# Altium footprint library 2020-01-26_02-45-12.PcbLib: 3 footprints
Each footprint in its own frame and in the unit in brackets; x right, y up, seen from the top. Pads: shape width x height; smd on the part's side, far side on the other; paste and mask are expansions set on the pad; w line width, h text height; cw(c..) or ccw(c..) is an arc to the next point about the centre after c.
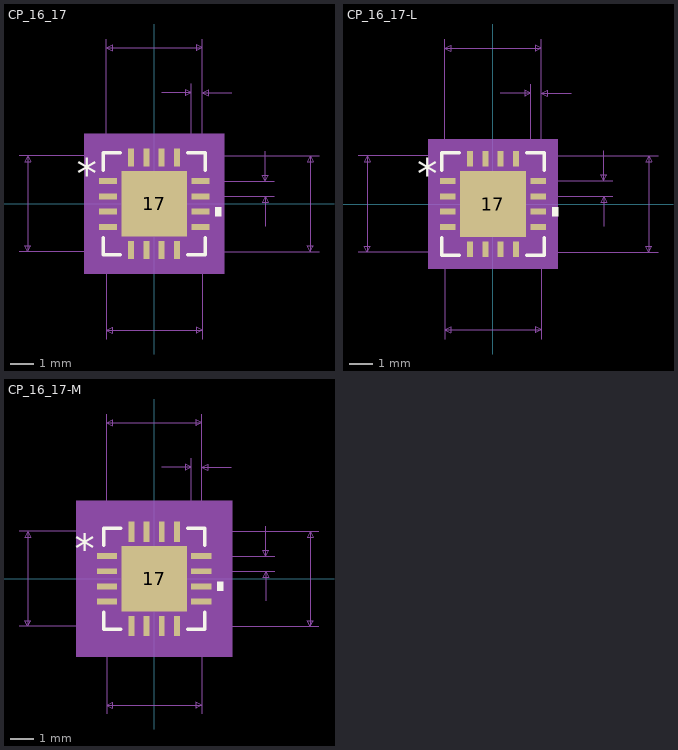
[diagram p0: the footprints below, top view; thin cyan lines are the x and y axes]

## CP_16_17 [mil]
pads (17):
  rect 30x10 smd paste+0 mask+0: 1(-77.5,38.39) 2(-77.5,12.8) 3(-77.5,-12.8) 4(-77.5,-38.39) 9(77.5,-38.39) 10(77.5,-12.8) 11(77.5,12.8) 12(77.5,38.39)
  rect 10x30 smd paste+0 mask+0: 5(-38.39,-77.5) 6(-12.8,-77.5) 7(12.8,-77.5) 8(38.39,-77.5) 13(38.39,77.5) 14(12.8,77.5) 15(-12.8,77.5) 16(-38.39,77.5)
  rect 110x110 smd paste-54.5 mask+0: 17(0,0)
Top Overlay:
  region: 102.5,-5.3 112.5,-5.3 112.5,-20.3 102.5,-20.3
  lines w6: -85.5,-56.49 -85.5,-85.5 -56.49,-85.5 ; -85.5,56.49 -85.5,85.5 -56.49,85.5 ; 56.49,-85.5 85.5,-85.5 85.5,-56.49 ; 56.49,85.5 85.5,85.5 85.5,56.49
  text "*" at -130,26.18 h50
Top Paste:
  region: -3.94,51.06 -51.06,51.06 -51.06,3.94 -3.94,3.94
  region: -3.94,-3.94 -51.06,-3.94 -51.06,-51.06 -3.94,-51.06
  region: 51.06,51.06 3.94,51.06 3.94,3.94 51.06,3.94
  region: 51.06,-3.94 3.94,-3.94 3.94,-51.06 51.06,-51.06
Mechanical 5:
  region: 117.5,-117.5 -117.5,-117.5 -117.5,117.5 117.5,117.5
Mechanical 7:
  lines w1: -226.5,-80.5 80.5,-80.5 ; -226.5,80.5 80.5,80.5 80.5,-226.5 ; -80.5,-226.5 -80.5,80.5 ; -80.5,38.39 -80.5,276.5 ; 12.5,186.5 62.5,186.5 ; 38.39,-80.5 276.5,-80.5 ; 38.39,80.5 276.5,80.5 ; 62.5,38.39 62.5,201.5 ; 77.5,12.8 201.5,12.8 ; 77.5,38.39 201.5,38.39 ; 80.5,201.5 80.5,38.39 80.5,276.5 ; 130.5,186.5 80.5,186.5 ; 186.5,-37.2 186.5,12.8 ; 186.5,88.39 186.5,38.39 ; -211.5,-80.5 -211.5,80.5 ; -211.5,-80.5 -216.5,-70.5 -206.5,-70.5 -211.5,-80.5 ; -211.5,80.5 -216.5,70.5 -206.5,70.5 -211.5,80.5 ; -80.5,-211.5 80.5,-211.5 ; -80.5,-211.5 -70.5,-206.5 -70.5,-216.5 -80.5,-211.5 ; -80.5,261.5 80.5,261.5 ; -80.5,261.5 -70.5,266.5 -70.5,256.5 -80.5,261.5 ; 62.5,186.5 52.5,191.5 52.5,181.5 62.5,186.5 ; 80.5,-211.5 70.5,-206.5 70.5,-216.5 80.5,-211.5 ; 80.5,186.5 90.5,191.5 90.5,181.5 80.5,186.5 ; 80.5,261.5 70.5,266.5 70.5,256.5 80.5,261.5 ; 186.5,12.8 181.5,2.8 191.5,2.8 186.5,12.8 ; 186.5,38.39 181.5,48.39 191.5,48.39 186.5,38.39 ; 261.5,-80.5 261.5,80.5 ; 261.5,-80.5 256.5,-70.5 266.5,-70.5 261.5,-80.5 ; 261.5,80.5 256.5,70.5 266.5,70.5 261.5,80.5
  text "Default Padstyle: RX10Y30D0T" at -350,-402.5 h50
  text "Heat Tab Padstyle: RX110Y110D0T" at -387.5,-462.5 h50
  text "Alt 1 Padstyle: OX60Y90D30P" at -337.5,-582.5 h50
  text "Alt 2 Padstyle: OX90Y60D30P" at -337.5,-642.5 h50
  text "0.026in/0.65mm" at 206.5,13.09 h25
  text "0.018in/0.457mm" at -22.25,206.5 h25
  text "0.161in/4.089mm" at -93.75,281.5 h25
  text "0.161in/4.089mm" at 281.5,-12.5 h25
  text "0.161in/4.089mm" at -419,-12.5 h25
  text "0.161in/4.089mm" at -93.75,-256.5 h25
Mechanical 13:
  lines w1: -80.5,30.5 -30.5,80.5 ; -80.5,-80.5 80.5,-80.5 ; -80.5,-80.5 -80.5,80.5 ; -80.5,-80.5 -80.5,-80.5 ; -80.5,-45.39 -80.5,-31.39 ; -80.5,-45.39 -80.5,-31.39 ; -80.5,-45.39 -80.5,-45.39 ; -80.5,-31.39 -80.5,-31.39 ; -80.5,-19.8 -80.5,-5.8 ; -80.5,-19.8 -80.5,-5.8 ; -80.5,-19.8 -80.5,-19.8 ; -80.5,-5.8 -80.5,-5.8 ; -80.5,5.8 -80.5,19.8 ; -80.5,5.8 -80.5,19.8 ; -80.5,5.8 -80.5,5.8 ; -80.5,19.8 -80.5,19.8 ; -80.5,31.39 -80.5,45.39 ; -80.5,31.39 -80.5,45.39 ; -80.5,31.39 -80.5,31.39 ; -80.5,45.39 -80.5,45.39 ; -80.5,80.5 80.5,80.5 ; -80.5,80.5 -80.5,80.5 ; -45.39,-80.5 -31.39,-80.5 ; -45.39,-80.5 -45.39,-80.5 ; -45.39,-80.5 -31.39,-80.5 ; -45.39,80.5 -31.39,80.5 ; -45.39,80.5 -31.39,80.5 ; -45.39,80.5 -45.39,80.5 ; -31.39,-80.5 -31.39,-80.5 ; -31.39,80.5 -31.39,80.5 ; -19.8,-80.5 -5.8,-80.5 ; -19.8,-80.5 -19.8,-80.5 ; -19.8,-80.5 -5.8,-80.5 ; -19.8,80.5 -5.8,80.5 ; -19.8,80.5 -5.8,80.5 ; -19.8,80.5 -19.8,80.5 ; -5.8,-80.5 -5.8,-80.5 ; -5.8,80.5 -5.8,80.5 ; 5.8,-80.5 19.8,-80.5 ; 5.8,-80.5 5.8,-80.5 ; 5.8,-80.5 19.8,-80.5 ; 5.8,80.5 19.8,80.5 ; 5.8,80.5 19.8,80.5 ; 5.8,80.5 5.8,80.5 ; 19.8,-80.5 19.8,-80.5 ; 19.8,80.5 19.8,80.5 ; 31.39,-80.5 45.39,-80.5 ; 31.39,-80.5 31.39,-80.5 ; 31.39,-80.5 45.39,-80.5 ; 31.39,80.5 45.39,80.5 ; 31.39,80.5 45.39,80.5 ; 31.39,80.5 31.39,80.5 ; 45.39,-80.5 45.39,-80.5 ; 45.39,80.5 45.39,80.5 ; 80.5,-80.5 80.5,-80.5 ; 80.5,-80.5 80.5,80.5 ; 80.5,-45.39 80.5,-31.39 ; 80.5,-45.39 80.5,-45.39 ; 80.5,-45.39 80.5,-31.39 ; 80.5,-31.39 80.5,-31.39 ; 80.5,-19.8 80.5,-5.8 ; 80.5,-19.8 80.5,-19.8 ; 80.5,-19.8 80.5,-5.8 ; 80.5,-5.8 80.5,-5.8 ; 80.5,5.8 80.5,19.8 ; 80.5,5.8 80.5,5.8 ; 80.5,5.8 80.5,19.8 ; 80.5,19.8 80.5,19.8 ; 80.5,31.39 80.5,45.39 ; 80.5,31.39 80.5,31.39 ; 80.5,31.39 80.5,45.39 ; 80.5,45.39 80.5,45.39 ; 80.5,80.5 80.5,80.5
  text "*" at -75,26.18 h50
Mechanical 15:
  region: -53.39,-90.5 -90.5,-90.5 -90.5,-53.39 -102.5,-53.39 -102.5,53.39 -90.5,53.39 -90.5,90.5 -53.39,90.5 -53.39,102.5 53.39,102.5 53.39,90.5 90.5,90.5 90.5,53.39 102.5,53.39 102.5,-53.39 90.5,-53.39 90.5,-90.5 53.39,-90.5 53.39,-102.5 -53.39,-102.5
  lines w6: -102.5,-53.39 -90.5,-53.39 -90.5,-90.5 -53.39,-90.5 -53.39,-102.5 53.39,-102.5 53.39,-90.5 90.5,-90.5 90.5,-53.39 102.5,-53.39 102.5,53.39 90.5,53.39 90.5,90.5 53.39,90.5 53.39,102.5 -53.39,102.5 -53.39,90.5 -90.5,90.5 -90.5,53.39 -102.5,53.39 -102.5,-53.39
3D body: height 10, standoff 0, extent 0,0 10,10

## CP_16_17-L [mil]
pads (17):
  rect 26x10 smd paste+0 mask+0: 1(-75.5,38.39) 2(-75.5,12.8) 3(-75.5,-12.8) 4(-75.5,-38.39) 9(75.5,-38.39) 10(75.5,-12.8) 11(75.5,12.8) 12(75.5,38.39)
  rect 10x26 smd paste+0 mask+0: 5(-38.39,-75.5) 6(-12.8,-75.5) 7(12.8,-75.5) 8(38.39,-75.5) 13(38.39,75.5) 14(12.8,75.5) 15(-12.8,75.5) 16(-38.39,75.5)
  rect 110x110 smd paste-54.5 mask+0: 17(0,0)
Top Overlay:
  region: 98.5,-5.3 108.5,-5.3 108.5,-20.3 98.5,-20.3
  lines w6: -85.5,-56.49 -85.5,-85.5 -56.49,-85.5 ; -85.5,56.49 -85.5,85.5 -56.49,85.5 ; 56.49,-85.5 85.5,-85.5 85.5,-56.49 ; 56.49,85.5 85.5,85.5 85.5,56.49
  text "*" at -126,26.18 h50
Top Paste:
  region: -3.94,51.06 -51.06,51.06 -51.06,3.94 -3.94,3.94
  region: -3.94,-3.94 -51.06,-3.94 -51.06,-51.06 -3.94,-51.06
  region: 51.06,51.06 3.94,51.06 3.94,3.94 51.06,3.94
  region: 51.06,-3.94 3.94,-3.94 3.94,-51.06 51.06,-51.06
Mechanical 5:
  region: 107.5,-107.5 -107.5,-107.5 -107.5,107.5 107.5,107.5
Mechanical 7:
  lines w1: -224.5,-80.5 80.5,-80.5 ; -224.5,80.5 80.5,80.5 80.5,-224.5 ; -80.5,-224.5 -80.5,80.5 ; -80.5,38.39 -80.5,274.5 ; 12.5,184.5 62.5,184.5 ; 38.39,-80.5 274.5,-80.5 ; 38.39,80.5 274.5,80.5 ; 62.5,38.39 62.5,199.5 ; 75.5,12.8 199.5,12.8 ; 75.5,38.39 199.5,38.39 ; 80.5,199.5 80.5,38.39 80.5,274.5 ; 130.5,184.5 80.5,184.5 ; 184.5,-37.2 184.5,12.8 ; 184.5,88.39 184.5,38.39 ; -209.5,-80.5 -209.5,80.5 ; -209.5,-80.5 -214.5,-70.5 -204.5,-70.5 -209.5,-80.5 ; -209.5,80.5 -214.5,70.5 -204.5,70.5 -209.5,80.5 ; -80.5,-209.5 80.5,-209.5 ; -80.5,-209.5 -70.5,-204.5 -70.5,-214.5 -80.5,-209.5 ; -80.5,259.5 80.5,259.5 ; -80.5,259.5 -70.5,264.5 -70.5,254.5 -80.5,259.5 ; 62.5,184.5 52.5,189.5 52.5,179.5 62.5,184.5 ; 80.5,-209.5 70.5,-204.5 70.5,-214.5 80.5,-209.5 ; 80.5,184.5 90.5,189.5 90.5,179.5 80.5,184.5 ; 80.5,259.5 70.5,264.5 70.5,254.5 80.5,259.5 ; 184.5,12.8 179.5,2.8 189.5,2.8 184.5,12.8 ; 184.5,38.39 179.5,48.39 189.5,48.39 184.5,38.39 ; 259.5,-80.5 259.5,80.5 ; 259.5,-80.5 254.5,-70.5 264.5,-70.5 259.5,-80.5 ; 259.5,80.5 254.5,70.5 264.5,70.5 259.5,80.5
  text "Default Padstyle: RX10Y26D0T" at -350,-398.5 h50
  text "Heat Tab Padstyle: RX110Y110D0T" at -387.5,-458.5 h50
  text "Alt 1 Padstyle: OX60Y90D30P" at -337.5,-578.5 h50
  text "Alt 2 Padstyle: OX90Y60D30P" at -337.5,-638.5 h50
  text "0.026in/0.65mm" at 204.5,13.09 h25
  text "0.018in/0.457mm" at -22.25,204.5 h25
  text "0.161in/4.089mm" at -93.75,279.5 h25
  text "0.161in/4.089mm" at 279.5,-12.5 h25
  text "0.161in/4.089mm" at -417,-12.5 h25
  text "0.161in/4.089mm" at -93.75,-254.5 h25
Mechanical 13:
  lines w1: -80.5,30.5 -30.5,80.5 ; -80.5,-80.5 80.5,-80.5 ; -80.5,-80.5 -80.5,80.5 ; -80.5,-80.5 -80.5,-80.5 ; -80.5,-45.39 -80.5,-31.39 ; -80.5,-45.39 -80.5,-31.39 ; -80.5,-45.39 -80.5,-45.39 ; -80.5,-31.39 -80.5,-31.39 ; -80.5,-19.8 -80.5,-5.8 ; -80.5,-19.8 -80.5,-5.8 ; -80.5,-19.8 -80.5,-19.8 ; -80.5,-5.8 -80.5,-5.8 ; -80.5,5.8 -80.5,19.8 ; -80.5,5.8 -80.5,19.8 ; -80.5,5.8 -80.5,5.8 ; -80.5,19.8 -80.5,19.8 ; -80.5,31.39 -80.5,45.39 ; -80.5,31.39 -80.5,45.39 ; -80.5,31.39 -80.5,31.39 ; -80.5,45.39 -80.5,45.39 ; -80.5,80.5 80.5,80.5 ; -80.5,80.5 -80.5,80.5 ; -45.39,-80.5 -31.39,-80.5 ; -45.39,-80.5 -45.39,-80.5 ; -45.39,-80.5 -31.39,-80.5 ; -45.39,80.5 -31.39,80.5 ; -45.39,80.5 -31.39,80.5 ; -45.39,80.5 -45.39,80.5 ; -31.39,-80.5 -31.39,-80.5 ; -31.39,80.5 -31.39,80.5 ; -19.8,-80.5 -5.8,-80.5 ; -19.8,-80.5 -19.8,-80.5 ; -19.8,-80.5 -5.8,-80.5 ; -19.8,80.5 -5.8,80.5 ; -19.8,80.5 -5.8,80.5 ; -19.8,80.5 -19.8,80.5 ; -5.8,-80.5 -5.8,-80.5 ; -5.8,80.5 -5.8,80.5 ; 5.8,-80.5 19.8,-80.5 ; 5.8,-80.5 5.8,-80.5 ; 5.8,-80.5 19.8,-80.5 ; 5.8,80.5 19.8,80.5 ; 5.8,80.5 19.8,80.5 ; 5.8,80.5 5.8,80.5 ; 19.8,-80.5 19.8,-80.5 ; 19.8,80.5 19.8,80.5 ; 31.39,-80.5 45.39,-80.5 ; 31.39,-80.5 31.39,-80.5 ; 31.39,-80.5 45.39,-80.5 ; 31.39,80.5 45.39,80.5 ; 31.39,80.5 45.39,80.5 ; 31.39,80.5 31.39,80.5 ; 45.39,-80.5 45.39,-80.5 ; 45.39,80.5 45.39,80.5 ; 80.5,-80.5 80.5,-80.5 ; 80.5,-80.5 80.5,80.5 ; 80.5,-45.39 80.5,-31.39 ; 80.5,-45.39 80.5,-45.39 ; 80.5,-45.39 80.5,-31.39 ; 80.5,-31.39 80.5,-31.39 ; 80.5,-19.8 80.5,-5.8 ; 80.5,-19.8 80.5,-19.8 ; 80.5,-19.8 80.5,-5.8 ; 80.5,-5.8 80.5,-5.8 ; 80.5,5.8 80.5,19.8 ; 80.5,5.8 80.5,5.8 ; 80.5,5.8 80.5,19.8 ; 80.5,19.8 80.5,19.8 ; 80.5,31.39 80.5,45.39 ; 80.5,31.39 80.5,31.39 ; 80.5,31.39 80.5,45.39 ; 80.5,45.39 80.5,45.39 ; 80.5,80.5 80.5,80.5
  text "*" at -75,26.18 h50
Mechanical 15:
  region: -47.39,-84.5 -84.5,-84.5 -84.5,-47.39 -92.5,-47.39 -92.5,47.39 -84.5,47.39 -84.5,84.5 -47.39,84.5 -47.39,92.5 47.39,92.5 47.39,84.5 84.5,84.5 84.5,47.39 92.5,47.39 92.5,-47.39 84.5,-47.39 84.5,-84.5 47.39,-84.5 47.39,-92.5 -47.39,-92.5
  lines w6: -92.5,-47.39 -84.5,-47.39 -84.5,-84.5 -47.39,-84.5 -47.39,-92.5 47.39,-92.5 47.39,-84.5 84.5,-84.5 84.5,-47.39 92.5,-47.39 92.5,47.39 84.5,47.39 84.5,84.5 47.39,84.5 47.39,92.5 -47.39,92.5 -47.39,84.5 -84.5,84.5 -84.5,47.39 -92.5,47.39 -92.5,-47.39
3D body: height 10, standoff 0, extent 0,0 10,10

## CP_16_17-M [mil]
pads (17):
  rect 34x10 smd paste+0 mask+0: 1(-79.5,38.39) 2(-79.5,12.8) 3(-79.5,-12.8) 4(-79.5,-38.39) 9(79.5,-38.39) 10(79.5,-12.8) 11(79.5,12.8) 12(79.5,38.39)
  rect 10x34 smd paste+0 mask+0: 5(-38.39,-79.5) 6(-12.8,-79.5) 7(12.8,-79.5) 8(38.39,-79.5) 13(38.39,79.5) 14(12.8,79.5) 15(-12.8,79.5) 16(-38.39,79.5)
  rect 110x110 smd paste-54.5 mask+0: 17(0,0)
Top Overlay:
  region: 106.5,-5.3 116.5,-5.3 116.5,-20.3 106.5,-20.3
  lines w6: -85.5,-56.49 -85.5,-85.5 -56.49,-85.5 ; -85.5,56.49 -85.5,85.5 -56.49,85.5 ; 56.49,-85.5 85.5,-85.5 85.5,-56.49 ; 56.49,85.5 85.5,85.5 85.5,56.49
  text "*" at -134,26.18 h50
Top Paste:
  region: -3.94,51.06 -51.06,51.06 -51.06,3.94 -3.94,3.94
  region: -3.94,-3.94 -51.06,-3.94 -51.06,-51.06 -3.94,-51.06
  region: 51.06,51.06 3.94,51.06 3.94,3.94 51.06,3.94
  region: 51.06,-3.94 3.94,-3.94 3.94,-51.06 51.06,-51.06
Mechanical 5:
  region: 131.5,-131.5 -131.5,-131.5 -131.5,131.5 131.5,131.5
Mechanical 7:
  lines w1: -228.5,-80.5 80.5,-80.5 ; -228.5,80.5 80.5,80.5 80.5,-228.5 ; -80.5,-228.5 -80.5,80.5 ; -80.5,38.39 -80.5,278.5 ; 12.5,188.5 62.5,188.5 ; 38.39,-80.5 278.5,-80.5 ; 38.39,80.5 278.5,80.5 ; 62.5,38.39 62.5,203.5 ; 79.5,12.8 203.5,12.8 ; 79.5,38.39 203.5,38.39 ; 80.5,203.5 80.5,38.39 80.5,278.5 ; 130.5,188.5 80.5,188.5 ; 188.5,-37.2 188.5,12.8 ; 188.5,88.39 188.5,38.39 ; -213.5,-80.5 -213.5,80.5 ; -213.5,-80.5 -218.5,-70.5 -208.5,-70.5 -213.5,-80.5 ; -213.5,80.5 -218.5,70.5 -208.5,70.5 -213.5,80.5 ; -80.5,-213.5 80.5,-213.5 ; -80.5,-213.5 -70.5,-208.5 -70.5,-218.5 -80.5,-213.5 ; -80.5,263.5 80.5,263.5 ; -80.5,263.5 -70.5,268.5 -70.5,258.5 -80.5,263.5 ; 62.5,188.5 52.5,193.5 52.5,183.5 62.5,188.5 ; 80.5,-213.5 70.5,-208.5 70.5,-218.5 80.5,-213.5 ; 80.5,188.5 90.5,193.5 90.5,183.5 80.5,188.5 ; 80.5,263.5 70.5,268.5 70.5,258.5 80.5,263.5 ; 188.5,12.8 183.5,2.8 193.5,2.8 188.5,12.8 ; 188.5,38.39 183.5,48.39 193.5,48.39 188.5,38.39 ; 263.5,-80.5 263.5,80.5 ; 263.5,-80.5 258.5,-70.5 268.5,-70.5 263.5,-80.5 ; 263.5,80.5 258.5,70.5 268.5,70.5 263.5,80.5
  text "Default Padstyle: RX10Y34D0T" at -350,-406.5 h50
  text "Heat Tab Padstyle: RX110Y110D0T" at -387.5,-466.5 h50
  text "Alt 1 Padstyle: OX60Y90D30P" at -337.5,-586.5 h50
  text "Alt 2 Padstyle: OX90Y60D30P" at -337.5,-646.5 h50
  text "0.026in/0.65mm" at 208.5,13.09 h25
  text "0.018in/0.457mm" at -22.25,208.5 h25
  text "0.161in/4.089mm" at -93.75,283.5 h25
  text "0.161in/4.089mm" at 283.5,-12.5 h25
  text "0.161in/4.089mm" at -421,-12.5 h25
  text "0.161in/4.089mm" at -93.75,-258.5 h25
Mechanical 13:
  lines w1: -80.5,30.5 -30.5,80.5 ; -80.5,-80.5 80.5,-80.5 ; -80.5,-80.5 -80.5,80.5 ; -80.5,-80.5 -80.5,-80.5 ; -80.5,-45.39 -80.5,-31.39 ; -80.5,-45.39 -80.5,-31.39 ; -80.5,-45.39 -80.5,-45.39 ; -80.5,-31.39 -80.5,-31.39 ; -80.5,-19.8 -80.5,-5.8 ; -80.5,-19.8 -80.5,-5.8 ; -80.5,-19.8 -80.5,-19.8 ; -80.5,-5.8 -80.5,-5.8 ; -80.5,5.8 -80.5,19.8 ; -80.5,5.8 -80.5,19.8 ; -80.5,5.8 -80.5,5.8 ; -80.5,19.8 -80.5,19.8 ; -80.5,31.39 -80.5,45.39 ; -80.5,31.39 -80.5,45.39 ; -80.5,31.39 -80.5,31.39 ; -80.5,45.39 -80.5,45.39 ; -80.5,80.5 80.5,80.5 ; -80.5,80.5 -80.5,80.5 ; -45.39,-80.5 -31.39,-80.5 ; -45.39,-80.5 -45.39,-80.5 ; -45.39,-80.5 -31.39,-80.5 ; -45.39,80.5 -31.39,80.5 ; -45.39,80.5 -31.39,80.5 ; -45.39,80.5 -45.39,80.5 ; -31.39,-80.5 -31.39,-80.5 ; -31.39,80.5 -31.39,80.5 ; -19.8,-80.5 -5.8,-80.5 ; -19.8,-80.5 -19.8,-80.5 ; -19.8,-80.5 -5.8,-80.5 ; -19.8,80.5 -5.8,80.5 ; -19.8,80.5 -5.8,80.5 ; -19.8,80.5 -19.8,80.5 ; -5.8,-80.5 -5.8,-80.5 ; -5.8,80.5 -5.8,80.5 ; 5.8,-80.5 19.8,-80.5 ; 5.8,-80.5 5.8,-80.5 ; 5.8,-80.5 19.8,-80.5 ; 5.8,80.5 19.8,80.5 ; 5.8,80.5 19.8,80.5 ; 5.8,80.5 5.8,80.5 ; 19.8,-80.5 19.8,-80.5 ; 19.8,80.5 19.8,80.5 ; 31.39,-80.5 45.39,-80.5 ; 31.39,-80.5 31.39,-80.5 ; 31.39,-80.5 45.39,-80.5 ; 31.39,80.5 45.39,80.5 ; 31.39,80.5 45.39,80.5 ; 31.39,80.5 31.39,80.5 ; 45.39,-80.5 45.39,-80.5 ; 45.39,80.5 45.39,80.5 ; 80.5,-80.5 80.5,-80.5 ; 80.5,-80.5 80.5,80.5 ; 80.5,-45.39 80.5,-31.39 ; 80.5,-45.39 80.5,-45.39 ; 80.5,-45.39 80.5,-31.39 ; 80.5,-31.39 80.5,-31.39 ; 80.5,-19.8 80.5,-5.8 ; 80.5,-19.8 80.5,-19.8 ; 80.5,-19.8 80.5,-5.8 ; 80.5,-5.8 80.5,-5.8 ; 80.5,5.8 80.5,19.8 ; 80.5,5.8 80.5,5.8 ; 80.5,5.8 80.5,19.8 ; 80.5,19.8 80.5,19.8 ; 80.5,31.39 80.5,45.39 ; 80.5,31.39 80.5,31.39 ; 80.5,31.39 80.5,45.39 ; 80.5,45.39 80.5,45.39 ; 80.5,80.5 80.5,80.5
  text "*" at -75,26.18 h50
Mechanical 15:
  region: -63.39,-100.5 -100.5,-100.5 -100.5,-63.39 -116.5,-63.39 -116.5,63.39 -100.5,63.39 -100.5,100.5 -63.39,100.5 -63.39,116.5 63.39,116.5 63.39,100.5 100.5,100.5 100.5,63.39 116.5,63.39 116.5,-63.39 100.5,-63.39 100.5,-100.5 63.39,-100.5 63.39,-116.5 -63.39,-116.5
  lines w6: -116.5,-63.39 -100.5,-63.39 -100.5,-100.5 -63.39,-100.5 -63.39,-116.5 63.39,-116.5 63.39,-100.5 100.5,-100.5 100.5,-63.39 116.5,-63.39 116.5,63.39 100.5,63.39 100.5,100.5 63.39,100.5 63.39,116.5 -63.39,116.5 -63.39,100.5 -100.5,100.5 -100.5,63.39 -116.5,63.39 -116.5,-63.39
3D body: height 10, standoff 0, extent 0,0 10,10